# Altium footprint library BoostConverterModules.PcbLib: 1 footprints
Each footprint in its own frame and in the unit in brackets; x right, y up, seen from the top. Pads: shape width x height; smd on the part's side, far side on the other; paste and mask are expansions set on the pad; w line width, h text height; cw(c..) or ccw(c..) is an arc to the next point about the centre after c.
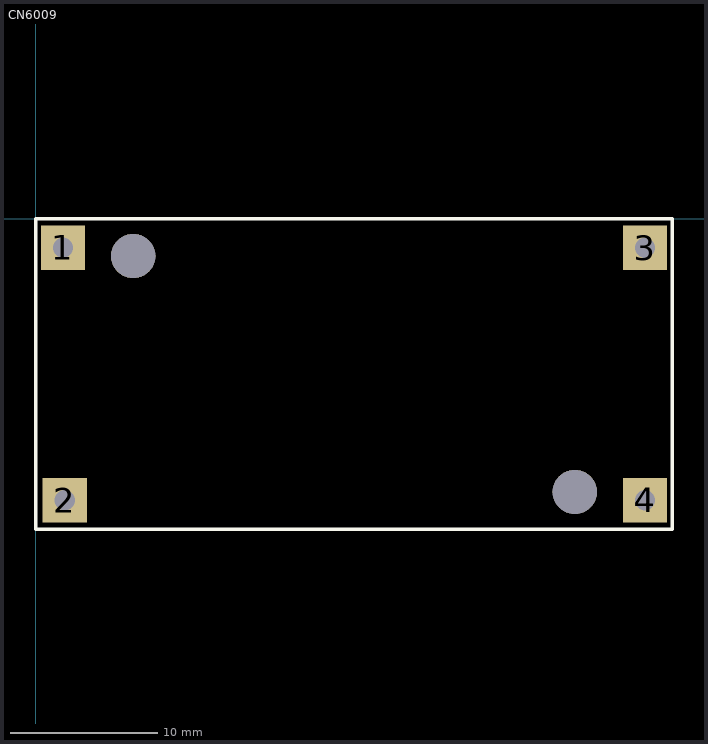
[diagram p0: the footprint, top view; thin cyan lines are the x and y axes]

## CN6009 [mm]
pads (6):
  rect 3x3 hole 1.38: 1(1.841,-1.968) 2(1.968,-19.113) 3(41.338,-1.968) 4(41.338,-19.113)
  round 3 hole 3 mask+0.5: ""(6.604,-2.54) ""(36.576,-18.54)
Top Overlay:
  lines w0.254: 0,-21.082 0,0 43.18,0 43.18,-21.082 0,-21.082